# Altium schematic symbol library amp_LNA.SchLib: 4 symbols
Pins are listed as number, name and electrical type; pins without a type are passive.

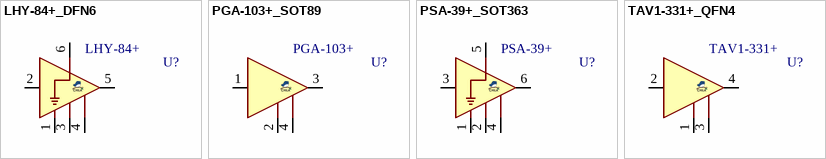
[diagram p0: symbols LHY-84+_DFN6 to TAV1-331+_QFN4]

## LHY-84+_DFN6
designator U?, comment LHY-84+
AMP, LNA, 0~7GHz, 50Ω; MANF: MINICIRCUITS; PARAM: 0~7GHz, 50Ω, -40~85°C; MANF_P#: LHY-84+; PRICE: 1.5$; VALUE: LHY-84+
footprint SON65_6T_2020 (DRV PWSON DFN6 Pitch: 0.65mm 2x2x1.1mm)
pins: 1 GND, 2 RFIN, 3 GND, 4 GND, 5 RFOUT, 6 GND

## PGA-103+_SOT89
designator U?, comment PGA-103+
AMP, LNA, 0.05~4GHz, 50Ω; MANF: MINICIRCUITS; PARAM: 0.05~4GHz, 50Ω, -40~85°C; MANF_P#: PGA-103+; PRICE: 1.5$; VALUE: PGA-103+
footprint SOT89_3 (SOT89, SOT-89, SBF-4089, SOT89A, GALI, SC-62, DF782, TO-243AA(JEDEC), 1.5mm pitch)
pins: 1 RFIN, 2 GND, 3 RFOUT, 4 GND

## PSA-39+_SOT363
designator U?, comment PSA-39+
AMP, LNA, 0~6GHz, 50Ω; MANF: MINICIRCUITS; PARAM: 0~6GHz, 50Ω, -40~85°C; MANF_P#: PSA-39+; PRICE: 1.3$; VALUE: PSA-39+
footprint SOT363_6 (SOT-363, SC-70-6, DCK, BFS483, SC-88, MO-203AB, 2X1.2mm)
pins: 1 GND, 2 GND, 3 RFIN, 4 GND, 5 GND, 6 RFOUT

## TAV1-331+_QFN4
designator U?, comment TAV1-331+
AMP, LNA, 0.01~4GHz, 50Ω; MANF: MINICIRCUITS; PARAM: 0.01~4GHz, 50Ω, -40~85°C; MANF_P#: TAV1-331+; PRICE: 1.5$; VALUE: TAV1-331+
footprint QFN80_4_1412 (TE2769, PQFN, 4-Leads, Body 1.40x1.20mm, Pitch 0.80mm)
pins: 1 GND, 2 RFIN, 3 GND, 4 RFOUT